# EAGLE library part FDS3572 (library EYR_Transistores)
N-Channel PowerTrench MOSFET 80V, 8.9A, 16mOhms
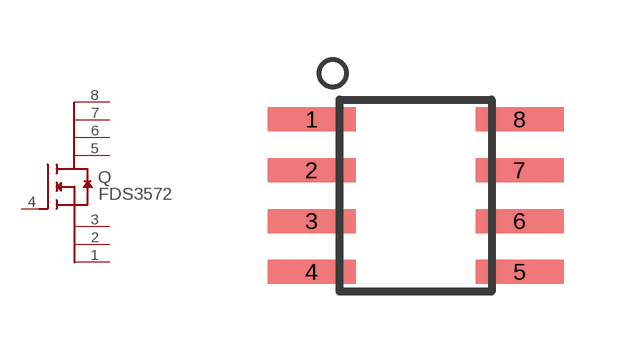
[diagram p1: symbol with the pads of SO-08; footprint SO-08]

Designator prefix Q

## FDS3572  [SO-08]
1  S1
2  S2
3  S3
4  G
5  D1
6  D2
7  D3
8  D4

## Footprint SO-08 (pad centres in mm)
Small Outline Narrow Plastic Gull Wing 150-mil body, package type SN
smd 2.2 x 0.6: 1 -2.6,1.905; 2 -2.6,0.635; 3 -2.6,-0.635; 4 -2.6,-1.905; 5 2.6,-1.905; 6 2.6,-0.635; 7 2.6,0.635; 8 2.6,1.905